# Altium integrated library Res.IntLib: 445 symbols (part 1 of 2)
Pins are listed as number, name and electrical type; pins without a type are passive.

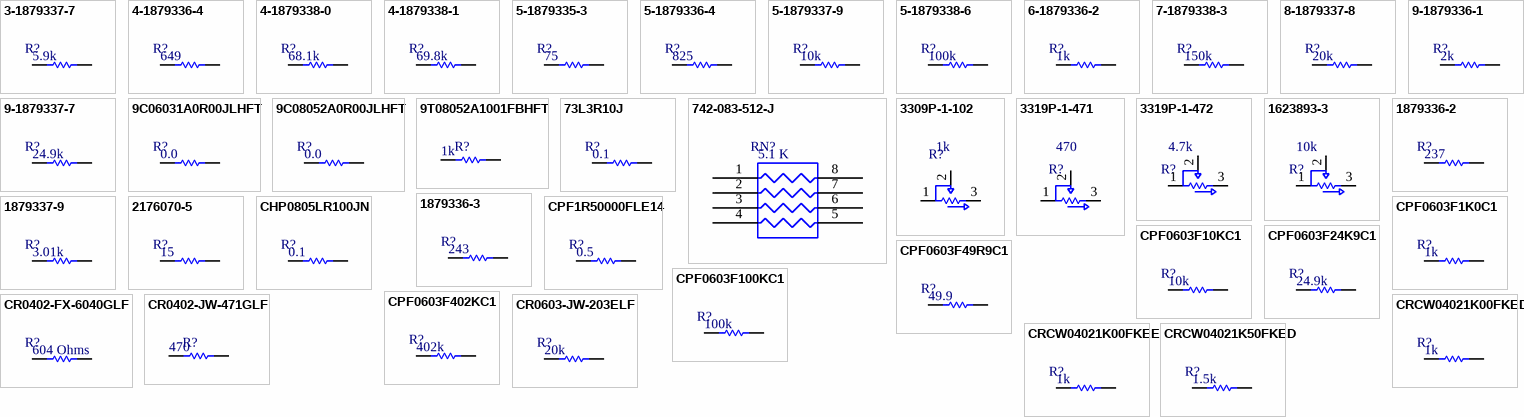
[diagram p0: symbols 3-1879337-7 to CRCW04021K50FKED]

## 3-1879337-7
designator R?  value 5.9k  (hidden comment: *)
RES SMD 5.9K OHM 1% 1/16W 0603; MPN: 3-1879337-7; MFT: TE Connectivity AMP Connectors; RATING: 0.063W; TYPE: SMD; LOAD: *
footprint R0603
pins: 1, 2

## 4-1879336-4
designator R?  value 649  (hidden comment: *)
RES SMD 649 OHM 1% 1/16W 0603; MPN: 4-1879336-4; MFT: TE Connectivity AMP Connectors; RATING: 0.063W; TYPE: SMD; LOAD: *
footprint R0603
pins: 1, 2

## 4-1879338-0
designator R?  value 68.1k  (hidden comment: *)
RES SMD 68.1K OHM 1% 1/16W 0603; MPN: 4-1879338-0; MFT: TE Connectivity AMP Connectors; RATING: 0.063W; TYPE: SMD; LOAD: *
footprint R0603
pins: 1, 2

## 4-1879338-1
designator R?  value 69.8k  (hidden comment: *)
RES SMD 69.8K OHM 1% 1/16W 0603; MPN: 4-1879338-1; MFT: TE Connectivity AMP Connectors; RATING: 0.063W; TYPE: SMD; LOAD: *
footprint R0603
pins: 1, 2

## 5-1879335-3
designator R?  value 75  (hidden comment: *)
RES SMD 75 OHM 1% 1/16W 0603; MPN: 5-1879335-3; MFT: TE Connectivity AMP Connectors; RATING: 0.063W; TYPE: SMD; LOAD: *
footprint R0603
pins: 1, 2

## 5-1879336-4
designator R?  value 825  (hidden comment: *)
RES SMD 825 OHM 1% 1/16W 0603; MPN: 5-1879336-4; MFT: TE Connectivity AMP Connectors; RATING: 0.063W; TYPE: SMD; LOAD: *
footprint R0603
pins: 1, 2

## 5-1879337-9
designator R?  value 10k  (hidden comment: *)
RES SMD 10K OHM 1% 1/16W 0603; MPN: 5-1879337-9; MFT: TE Connectivity AMP Connectors; RATING: 0.063W; TYPE: SMD; LOAD: *
footprint R0603
pins: 1, 2

## 5-1879338-6
designator R?  value 100k  (hidden comment: *)
RES SMD 100K OHM 1% 1/16W 0603; MPN: 5-1879338-6; MFT: TE Connectivity AMP Connectors; RATING: 0.063W; TYPE: SMD; LOAD: *
footprint R0603
pins: 1, 2

## 6-1879336-2
designator R?  value 1k  (hidden comment: *)
RES SMD 1K OHM 1% 1/16W 0603; MPN: 6-1879336-2; MFT: TE Connectivity AMP Connectors; RATING: 0.063W; TYPE: SMD; LOAD: *
footprint R0603
pins: 1, 2

## 7-1879338-3
designator R?  value 150k  (hidden comment: *)
RES SMD 150K OHM 1% 1/16W 0603; MPN: 7-1879338-3; MFT: TE Connectivity AMP Connectors; RATING: 0.063W; TYPE: SMD; LOAD: *
footprint R0603
pins: 1, 2

## 8-1879337-8
designator R?  value 20k  (hidden comment: *)
RES SMD 20K OHM 1% 1/16W 0603; MPN: 8-1879337-8; MFT: TE Connectivity AMP Connectors; RATING: 0.063W; TYPE: SMD; LOAD: *
footprint R0603
pins: 1, 2

## 9-1879336-1
designator R?  value 2k  (hidden comment: *)
RES SMD 2K OHM 1% 1/16W 0603; MPN: 9-1879336-1; MFT: TE Connectivity AMP Connectors; RATING: 0.063W; TYPE: SMD; LOAD: *
footprint R0603
pins: 1, 2

## 9-1879337-7
designator R?  value 24.9k  (hidden comment: *)
RES SMD 24.9K OHM 1% 1/16W 0603; MPN: 9-1879337-7; MFT: TE Connectivity AMP Connectors; RATING: 0.063W; TYPE: SMD; LOAD: *
footprint R0603
pins: 1, 2

## 9C06031A0R00JLHFT
designator R?  value 0.0  (hidden comment: *)
RES SMD 0.0OHM JUMPER 1/10W 0603; MPN: 9C06031A0R00JLHFT; MFT: Yageo; RATING: Jumper; TYPE: Surface Mount
footprint R0603
pins: 1, 2

## 9C08052A0R00JLHFT
designator R?  value 0.0  (hidden comment: *)
RES SMD 0.0 OHM JUMPER 1/8W 0805; MPN: 9C08052A0R00JLHFT; MFT: Yageo; RATING: Jumper; TYPE: Surface Mount
footprint R0805
pins: 1, 2

## 9T08052A1001FBHFT
designator R?  value 1k  (hidden comment: 9T08052A1001FBHFT)
RES 1.00K OHM 1/8W 1% SMD 0805; MFT: Yageo; RATING: 0.125W, 1/8W; MPN: 9T08052A1001FBHFT
footprint R0805
pins: 1, 2

## 73L3R10J
designator R?  value 0.1  (hidden comment: *)
RES SMD 0.1 OHM 5% 1/8W 0805; MPN: 73L3R10J; MFT: CTS Resistor Products; RATING: 0.125W; TYPE: SMD; LOAD: *
footprint R0805
pins: 1, 2

## 742-083-512-J
designator RN?  value 5.1 K  (hidden comment: *)
RESNET, MF, 5.1 KOHM NIL 5%, ISOLATED; MPN: 742-083-512-J; MFT: CTS Resistor Products; TYPE: Surface Mount; RATING: 5%
footprint 742-083-512-J
pins: 1 R1, 2 R2, 3 R3, 4 R4, 5 R4, 6 R3, 7 R2, 8 R1

## 3309P-1-102
designator R?  value 1k  (hidden comment: *)
TRIMMER 1K OHM 0.5W PC PIN; MPN: 3309P-1-102; MFT: Bourns Inc.; RATING: 0.5W, 1/2W 25%; TYPE: Through Hole
footprint 3309P-1-102
pins: 1 CCW, 2 WIPER, 3 CW

## 3319P-1-471
designator R?  value 470  (hidden comment: *)
TRIMMER 470 OHM 0.2W PC PIN; MPN: 3319P-1-471; MFT: Bourns Inc.; TYPE: Through Hole; RATING: 0.2W
footprint 3319P-1-471
pins: 1 CCW, 2 WIPER, 3 CW

## 3319P-1-472
designator R?  value 4.7k  (hidden comment: *)
TRIMMER 4.7K OHM 0.2W PC PIN; MPN: 3319P-1-472; MFT: Bourns Inc.; RATING: 0.2W,; TYPE: Through Hole
footprint 3319P-1-472
pins: 1 CCW, 2 WIPER, 3 CW

## 1623893-3
designator R?  value 10k  (hidden comment: *)
TRIMMER 10K OHM 0.2W TH; MPN: 1623893-3; MFT: TE Connectivity AMP Connectors; RATING: 0.2W; TYPE: Through Hole
footprint 1623893-3
pins: 1 CCW, 2 WIPER, 3 CW

## 1879336-2
designator R?  value 237  (hidden comment: *)
RES SMD 237 OHM 1% 1/16W 0603; MPN: 1879336-2; MFT: TE Connectivity AMP Connectors; TYPE: SMD; RATING: 1% 1/16W; LOAD: *
footprint R0603
pins: 1, 2

## 1879336-3
designator R?  value 243  (hidden comment: *)
RES SMD 243 OHM 1% 1/16W 0603; MPN: 1879336-3; MFT: TE Connectivity AMP Connectors; TYPE: SMD; RATING: 1% 1/16W; LOAD: *
footprint R0603
pins: 1, 2

## 1879337-9
designator R?  value 3.01k  (hidden comment: *)
Thin Film Resistors - SMD CPF 0603 3K01 1% 50PPM 1K RL; MPN: 1879337-9; MFT: TE Connectivity; TYPE: SMD; RATING: 1% 50PPM; LOAD: *
footprint R0603
pins: 1, 2

## 2176070-5
designator R?  value 15  (hidden comment: *)
Thick Film Resistors - SMD 3521 15R 1% 2W; MPN: 352115RFT; MFT: TE Connectivity / Holsworthy; RATING: 1% 2W; TYPE: Surface Mount
footprint R2512
pins: 1, 2

## CHP0805LR100JN
designator R?  value 0.1  (hidden comment: *)
Thick Film Resistors - SMD; MPN: CHP0805LR100JN; MFT: Vishay / Thin Film; RATING: 200 mW; TYPE: SMD/SMT
footprint R0805
pins: 1, 2

## CPF1R50000FLE14
designator R?  value 0.5  (hidden comment: *)
Metal Film Resistors - Through Hole 1watt .5ohms 1%; MPN: CPF1R50000FLE14; MFT: Vishay / Dale; RATING: 1 W; TYPE: TH
footprint CPF1R50000FLE14
pins: 1, 2

## CPF0603F1K0C1
designator R?  value 1k  (hidden comment: *)
RES SMD 1K OHM 1% 1/16W 0603; MPN: CPF0603F1K0C1; MFT: TE Connectivity AMP Connectors; RATING: 0.063W, 1/16W; TYPE: Surface Mount
footprint R0603
pins: 1, 2

## CPF0603F10KC1
designator R?  value 10k  (hidden comment: *)
RES SMD 10K OHM 1% 1/16W 0603; MPN: CPF0603F10KC1; MFT: TE Connectivity AMP Connectors; RATING: 0.063W, 1/16W; TYPE: Surface Mount
footprint R0603
pins: 1, 2

## CPF0603F24K9C1
designator R?  value 24.9k  (hidden comment: *)
RES SMD 24.9K OHM 1% 1/16W 0603; MPN: CPF0603F24K9C1; MFT: TE Connectivity AMP Connectors; RATING: 0.063W, 1/16W; TYPE: Surface Mount
footprint R0603
pins: 1, 2

## CPF0603F49R9C1
designator R?  value 49.9  (hidden comment: *)
RES SMD 49.9 OHM 1% 1/16W 0603; MPN: CPF0603F49R9C1; MFT: TE Connectivity AMP Connectors; RATING: 0.063W, 1/16W; TYPE: Surface Mount
footprint R0603
pins: 1, 2

## CPF0603F100KC1
designator R?  value 100k  (hidden comment: *)
RES SMD 100K OHM 1% 1/16W 0603; MPN: CPF0603F100KC1; MFT: TE Connectivity AMP Connectors; RATING: 0.063W, 1/16W; TYPE: Surface Mount
footprint R0603
pins: 1, 2

## CPF0603F402KC1
designator R?  value 402k  (hidden comment: *)
RES SMD 402K OHM 1% 1/16W 0603; MPN: CPF0603F402KC1; MFT: TE Connectivity AMP Connectors; RATING: 0.063W, 1/16W; TYPE: Surface Mount
footprint R0603
pins: 1, 2

## CR0402-FX-6040GLF
designator R?  value 604 Ohms  (hidden comment: *)
Thick Film Resistors - SMD 604OHM 1/16WATT 1%; MPN: CR0402-FX-6040GLF; MFT: Bourns; RATING: 62.5 mW; TYPE: Surface Mount
footprint R0402
pins: 1, 2

## CR0402-JW-471GLF
designator R?  value 470  (hidden comment: *)
Thick Film Resistors - SMD 470 OHM 5%; MPN: CR0402-JW-471GLF; MFT: Bourns; RATING: 62.5 mW; TYPE: Surface Mount
footprint R0402
pins: 1, 2

## CR0603-JW-203ELF
designator R?  value 20k  (hidden comment: *)
RES SMD 20K OHM 5% 1/10W 0603; MPN: CR0603-JW-203ELF; MFT: Bourns Inc.; RATING: 0.1W, 1/10W; TYPE: Surface Mount
footprint R0603
pins: 1, 2

## CRCW04021K00FKED
designator R?  value 1k  (hidden comment: *)
RES SMD 1K OHM 1% 1/16W 0402; MPN: CRCW04021K00FKED; RATING: 0.063W; MFT: Vishay Dale; TYPE: Surface Mount
footprint R0402
pins: 1, 2

## CRCW04021K00FKEE
designator R?  value 1k  (hidden comment: *)
RES SMD 1K OHM 1% 1/16W 0402; MPN: CRCW04021K00FKEE; MFT: Vishay Dale; RATING: 0.063W, 1/16W; TYPE: Surface Mount
footprint R0402
pins: 1, 2

## CRCW04021K50FKED
designator R?  value 1.5k  (hidden comment: *)
RES SMD 1.5K OHM 1% 1/16W 0402; MPN: CRCW04021K50FKED; MFT: Vishay Dale; TYPE: SMD; RATING: 1/16W; LOAD: *
footprint R0402
pins: 1, 2

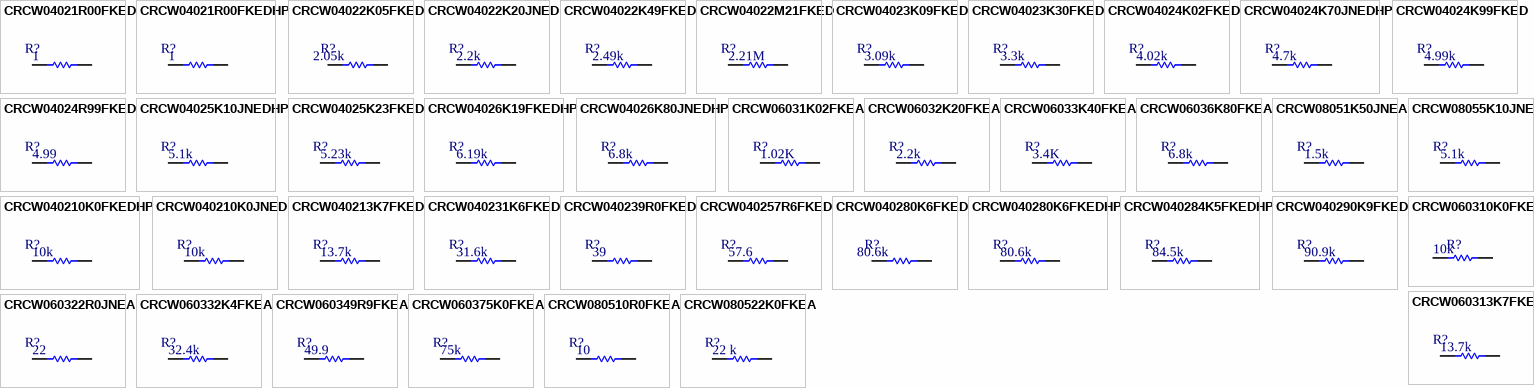
[diagram p1: symbols CRCW04021R00FKED to CRCW080522K0FKEA]

## CRCW04021R00FKED
designator R?  value 1  (hidden comment: *)
RES SMD 1 OHM 1% 1/16W 0402; MPN: CRCW04021R00FKED; MFT: Vishay Dale; TYPE: SMD; RATING: 1/16W; LOAD: *
footprint R0402
pins: 1, 2

## CRCW04021R00FKEDHP
designator R?  value 1  (hidden comment: *)
RES SMD 1 OHM 1% 1/5W 0402; MPN: CRCW04021R00FKEDHP; MFT: Vishay Dale; RATING: 0.2W, 1/5W; TYPE: Surface Mount
footprint R0402
pins: 1, 2

## CRCW04022K05FKED
designator R?  value 2.05k  (hidden comment: *)
RES SMD 2.05K OHM 1% 1/16W 0402; MPN: CRCW04022K05FKED; MFT: Vishay Dale; TYPE: SMD; RATING: 1/16W; LOAD: *
footprint R0402
pins: 1, 2

## CRCW04022K20JNED
designator R?  value 2.2k  (hidden comment: *)
RES SMD 2.2K OHM 5% 1/16W 0402; MPN: CRCW04022K20JNED; MFT: Vishay Dale; RATING: 0.063W, 1/16W; TYPE: Surface Mount
footprint R0402
pins: 1, 2

## CRCW04022K49FKED
designator R?  value 2.49k  (hidden comment: *)
RES SMD 2.49K OHM 1% 1/16W 0402; MPN: CRCW04022K49FKED; MFT: Vishay Dale; RATING: 63 mW; TYPE: Surface Mount
footprint R0402
pins: 1, 2

## CRCW04022M21FKED
designator R?  value 2.21M  (hidden comment: *)
RES SMD 2.21M OHM 1% 1/16W 0402; MPN: CRCW04022M21FKED; MFT: Vishay Dale; RATING: 0.063W, 1/16W; TYPE: Surface Mount
footprint R0402
pins: 1, 2

## CRCW04023K09FKED
designator R?  value 3.09k  (hidden comment: *)
RES SMD 3.09K OHM 1% 1/16W 0402; MPN: CRCW04023K09FKED; MFT: Vishay; LOAD: *; RATING: 1/16W; TYPE: SMD
footprint R0402
pins: 1, 2

## CRCW04023K30FKED
designator R?  value 3.3k  (hidden comment: *)
RES SMD 3.3K OHM 1% 1/16W 0402; MPN: CRCW04023K30FKED; MFT: Vishay Dale; TYPE: SMD; RATING: 1/16W; LOAD: *
footprint R0402
pins: 1, 2

## CRCW04024K02FKED
designator R?  value 4.02k  (hidden comment: *)
RES SMD 4.02K OHM 1% 1/16W 0402; MPN: CRCW04024K02FKED; MFT: Vishay Dale; RATING: 1% 1/16W; TYPE: Surface Mount
footprint R0402
pins: 1, 2

## CRCW04024K70JNEDHP
designator R?  value 4.7k  (hidden comment: *)
RES SMD 4.7K OHM 5% 1/8W 0402; MPN: CRCW04024K70JNEDHP; MFT: Vishay Dale; RATING: 5% 1/8W; TYPE: SMD; LOAD: *
footprint R0402
pins: 1, 2

## CRCW04024K99FKED
designator R?  value 4.99k  (hidden comment: *)
RES SMD 4.99K OHM 1% 1/16W 0402; MPN: CRCW04024K99FKED; MFT: Vishay Dale; RATING: 0.063W, 1/16W; TYPE: Surface Mount
footprint R0402
pins: 1, 2

## CRCW04024R99FKED
designator R?  value 4.99  (hidden comment: *)
RES SMD 4.99 OHM 1% 1/16W 0402; MPN: CRCW04024R99FKED; MFT: Vishay Dale; TYPE: Surface Mount; RATING: 1% 1/16W
footprint R0402
pins: 1, 2

## CRCW04025K10JNEDHP
designator R?  value 5.1k  (hidden comment: *)
RES SMD 5.1K OHM 5% 1/8W 0402; MPN: CRCW04025K10JNEDHP; MFT: Vishay Dale; RATING: 5% 1/8W; TYPE: SMD; LOAD: *
footprint R0402
pins: 1, 2

## CRCW04025K23FKED
designator R?  value 5.23k  (hidden comment: *)
RES SMD 5.23K OHM 1% 1/16W 0402; MPN: CRCW04025K23FKED; RATING: 0.063W; MFT: Vishay Dale; TYPE: Surface Mount
footprint R0402
pins: 1, 2

## CRCW04026K19FKEDHP
designator R?  value 6.19k  (hidden comment: *)
RES SMD 6.19K OHM 1% 1/5W 0402; MPN: CRCW04026K19FKEDHP; MFT: Vishay Dale; RATING: 0.2W, 1/5W; TYPE: Surface Mount
footprint R0402
pins: 1, 2

## CRCW04026K80JNEDHP
designator R?  value 6.8k  (hidden comment: *)
RES SMD 6.8K OHM 5% 1/8W 0402; MPN: CRCW04026K80JNEDHP; MFT: Vishay Dale; RATING: 5% 1/8W; TYPE: SMD; LOAD: *
footprint R0402
pins: 1, 2

## CRCW06031K02FKEA
designator R?  value 1.02K  (hidden comment: *)
Thick Film Resistors - SMD 1/10watt 1.02Kohms1%; MPN: CRCW06031K02FKEA; MFT: Vishay / Dale; RATING: 1%; TYPE: Surface Mount
footprint R0603
pins: 1, 2

## CRCW06032K20FKEA
designator R?  value 2.2k  (hidden comment: *)
RES SMD 2.2K OHM 1% 1/10W 0603; MPN: CRCW06032K20FKEA; MFT: Vishay Dale; RATING: 0.1W, 1/10W; TYPE: Surface Mount
footprint R0603
pins: 1, 2

## CRCW06033K40FKEA
designator R?  value 3.4K  (hidden comment: *)
Thick Film Resistors - SMD 1/10watt 3.4Kohms 1%; MPN: CRCW06033K40FKEA; MFT: Vishay / Dale; RATING: 1%; TYPE: Surface Mount
footprint R0603
pins: 1, 2

## CRCW06036K80FKEA
designator R?  value 6.8k  (hidden comment: *)
RES SMD 6.8K OHM 1% 1/10W 0603; MPN: CRCW06036K80FKEA; MFT: Vishay Dale; TYPE: Surface Mount; RATING: 1% 1/10W
footprint R0603
pins: 1, 2

## CRCW08051K50JNEA
designator R?  value 1.5k  (hidden comment: *)
RES SMD 1.5K OHM 5% 1/8W 0805; MPN: CRCW08051K50JNEA; MFT: Vishay Dale; RATING: 5% 1/8W; TYPE: SMD; LOAD: *
footprint R0805
pins: 1, 2

## CRCW08055K10JNEA
designator R?  value 5.1k  (hidden comment: *)
RES SMD 5.1K OHM 5% 1/8W 0805; MPN: CRCW08055K10JNEA; MFT: Vishay Dale; RATING: 5% 1/8W; TYPE: SMD; LOAD: *
footprint R0805
pins: 1, 2

## CRCW040210K0FKEDHP
designator R?  value 10k  (hidden comment: *)
RES SMD 10K OHM 1% 1/5W 0402; MPN: CRCW040210K0FKEDHP; MFT: Vishay Dale; RATING: 0.2W, 1/5W; TYPE: Surface Mount
footprint R0402
pins: 1, 2

## CRCW040210K0JNED
designator R?  value 10k  (hidden comment: *)
RES SMD 10K OHM 5% 1/16W 0402; MPN: CRCW040210K0JNED; MFT: Vishay Dale; RATING: 0.063W, 1/16W; TYPE: Surface Mount
footprint R0402
pins: 1, 2

## CRCW040213K7FKED
designator R?  value 13.7k  (hidden comment: *)
RES SMD 13.7K OHM 1% 1/16W 0402; MPN: CRCW040213K7FKED; MFT: Vishay Dale; TYPE: SMD; RATING: 1% 1/16W; LOAD: *
footprint R0402
pins: 1, 2

## CRCW040231K6FKED
designator R?  value 31.6k  (hidden comment: *)
RES SMD 31.6K OHM 1% 1/16W 0402; MPN: CRCW040231K6FKED; MFT: Vishay Dale; RATING: 0.063W, 1/16W; TYPE: Surface Mount
footprint R0402
pins: 1, 2

## CRCW040239R0FKED
designator R?  value 39  (hidden comment: *)
RES SMD 39 OHM 1% 1/16W 0402; MPN: CRCW040239R0FKED; MFT: Vishay Dale; TYPE: SMD; RATING: 1/16W; LOAD: *
footprint R0402
pins: 1, 2

## CRCW040257R6FKED
designator R?  value 57.6  (hidden comment: *)
RES SMD 57.6 OHM 1% 1/16W 0402; MPN: CRCW040257R6FKED; MFT: Vishay Dale; TYPE: SMD; RATING: 1/16W; LOAD: *
footprint R0402
pins: 1, 2

## CRCW040280K6FKED
designator R?  value 80.6k  (hidden comment: *)
RES SMD 80.6K OHM 1% 1/16W 0402; MPN: CRCW040280K6FKED; MFT: Vishay Dale; TYPE: SMD; RATING: 1/16W; LOAD: *
footprint R0402
pins: 1, 2

## CRCW040280K6FKEDHP
designator R?  value 80.6k  (hidden comment: *)
RES SMD 80.6K OHM 1% 1/8W 0402; MPN: CRCW040280K6FKEDHP; MFT: Vishay Dale; RATING: 1% 1/8W; TYPE: SMD; LOAD: *
footprint R0402
pins: 1, 2

## CRCW040284K5FKEDHP
designator R?  value 84.5k  (hidden comment: *)
RES SMD 84.5K OHM 1% 1/5W 0402; MPN: CRCW040284K5FKEDHP; MFT: Vishay Dale; RATING: 0.2W, 1/5W; TYPE: Surface Mount
footprint R0402
pins: 1, 2

## CRCW040290K9FKED
designator R?  value 90.9k  (hidden comment: *)
RES SMD 90.9K OHM 1% 1/16W 0402; MPN: CRCW040290K9FKED; MFT: Vishay Dale; RATING: ±1%; TYPE: Surface Mount
footprint R0402
pins: 1, 2

## CRCW060310K0FKEA
designator R?  value 10k
RES 10.0K OHM 1/10W 1% 0603 SMD; MPN: CRCW060310K0FKEA; MFT: Vishay Dale; RATING: 0.1W, 1/10W; TYPE: Surface Mount
footprint R0603
pins: 1, 2

## CRCW060313K7FKEA
designator R?  value 13.7k  (hidden comment: *)
RES SMD 13.7K OHM 1% 1/10W 0603; MPN: CRCW060313K7FKEA; MFT: Vishay Dale; RATING: 100 mW; TYPE: Surface Mount
footprint R0603
pins: 1, 2

## CRCW060322R0JNEA
designator R?  value 22  (hidden comment: *)
RES SMD 22 OHM 5% 1/10W 0603; MPN: CRCW060322R0JNEA; MFT: Vishay Dale; RATING: ±5%; TYPE: Surface Mount
footprint R0603
pins: 1, 2

## CRCW060332K4FKEA
designator R?  value 32.4k  (hidden comment: *)
RES SMD 32.4K OHM 1% 1/10W 0603; MPN: CRCW060332K4FKEA; MFT: Vishay Dale; RATING: 0.1W, 1/10W; TYPE: Surface Mount
footprint R0603
pins: 1, 2

## CRCW060349R9FKEA
designator R?  value 49.9  (hidden comment: *)
RES SMD 49.9 OHM 1% 1/10W 0603; MPN: CRCW060349R9FKEA; MFT: Vishay Dale; RATING: ±1%; TYPE: Surface Mount
footprint R0603
pins: 1, 2

## CRCW060375K0FKEA
designator R?  value 75k  (hidden comment: *)
RES SMD 75K OHM 1% 1/10W 0603; MPN: CRCW060375K0FKEA; MFT: Vishay Dale; RATING: 100mW; TYPE: Surface Mount
footprint R0603
pins: 1, 2

## CRCW080510R0FKEA
designator R?  value 10  (hidden comment: *)
RES SMD 10 OHM 1% 1/8W 0805; MPN: CRCW080510R0FKEA; MFT: Vishay Dale; RATING: 1% 1/8W; TYPE: Surface Mount
footprint R0805
pins: 1, 2

## CRCW080522K0FKEA
designator R?  value 22 k  (hidden comment: *)
Thick Film Resistors - SMD 1/8watt 22Kohms 1% 100ppm; MPN: CRCW080522K0FKEA; MFT: Vishay / Dale; RATING: 125 mW; TYPE: SMD/SMT
footprint R0805
pins: 1, 2

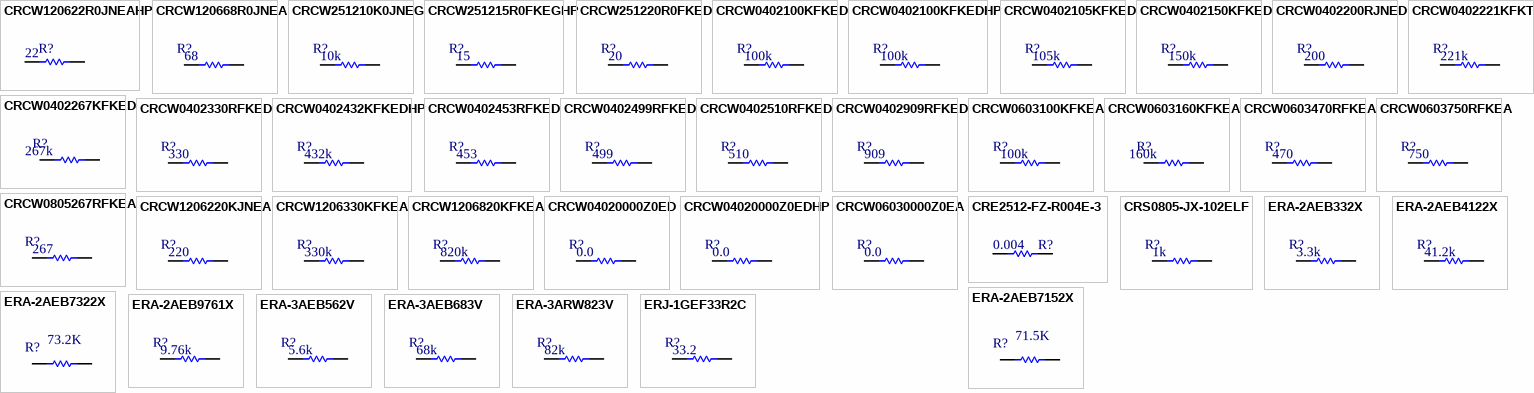
[diagram p2: symbols CRCW120622R0JNEAHP to ERJ-1GEF33R2C]

## CRCW120622R0JNEAHP
designator R?  value 22  (hidden comment: CRCW120622R0JNEAHP)
Thick Film Resistors - SMD 1/2watt 22ohms 5% 200ppm High Power; MFT: Vishay / Dale; RATING: 500 mW (1/2 W); MPN: CRCW120622R0JNEAHP; TYPE: Surface Mount
footprint R1206
pins: 1, 2

## CRCW120668R0JNEA
designator R?  value 68  (hidden comment: *)
RES SMD 68 OHM 5% 1/4W 1206; MPN: CRCW120668R0JNEA; MFT: Vishay Dale; RATING: 5% 1/4W; TYPE: SMD; LOAD: *
footprint R1206
pins: 1, 2

## CRCW251210K0JNEG
designator R?  value 10k  (hidden comment: *)
RES SMD 10K OHM 5% 1W 2512; MPN: CRCW251210K0JNEG; MFT: Vishay Dale; RATING: 1W; TYPE: Surface Mount
footprint R2512
pins: 1, 2

## CRCW251215R0FKEGHP
designator R?  value 15  (hidden comment: *)
RES SMD 15 OHM 1% 1.5W 2512; MPN: CRCW251215R0FKEGHP; MFT: Vishay Dale; TYPE: SMD; RATING: 1.5W; LOAD: *
footprint R2512
pins: 1, 2

## CRCW251220R0FKED
designator R?  value 20  (hidden comment: *)
RES SMD 2512 20 OHMS 1% 1W; MPN: CRCW251220R0FKED; RATING: 1% 1W; MFT: *; TYPE: SMD; LOAD: *
footprint R2512
pins: 1, 2

## CRCW0402100KFKED
designator R?  value 100k  (hidden comment: *)
RES SMD 100K OHM 1% 1/16W 0402; MPN: CRCW0402100KFKED; RATING: 0.063W; MFT: Vishay Dale; TYPE: Surface Mount
footprint R0402
pins: 1, 2

## CRCW0402100KFKEDHP
designator R?  value 100k  (hidden comment: *)
RES SMD 100K OHM 1% 1/5W 0402; MPN: CRCW0402100KFKEDHP; MFT: Vishay Dale; RATING: 0.2W, 1/5W; TYPE: Surface Mount
footprint R0402
pins: 1, 2

## CRCW0402105KFKED
designator R?  value 105k  (hidden comment: *)
RES SMD 105K OHM 1% 1/16W 0402; MPN: CRCW0402105KFKED; MFT: Vishay Dale; RATING: 0.063W, 1/16W; TYPE: Surface Mount
footprint R0402
pins: 1, 2

## CRCW0402150KFKED
designator R?  value 150k  (hidden comment: *)
RES SMD 150K OHM 1% 1/16W 0402; MPN: CRCW0402150KFKED; MFT: Vishay Dale; RATING: 63mW; TYPE: Surface Mount
footprint R0402
pins: 1, 2

## CRCW0402200RJNED
designator R?  value 200  (hidden comment: *)
RES SMD 200 OHM 5% 1/16W 0402; MPN: CRCW0402200RJNED; MFT: Vishay Dale; TYPE: SMD; RATING: 1/16W; LOAD: *
footprint R0402
pins: 1, 2

## CRCW0402221KFKTD
designator R?  value 221k  (hidden comment: *)
Thick Film Resistors - SMD 1/16watt 221Kohms 1%; MPN: CRCW0402221KFKTD; MFT: Vishay / Dale; RATING: 63mW; TYPE: Surface Mount
footprint R0402
pins: 1, 2

## CRCW0402267KFKED
designator R?  value 267k  (hidden comment: *)
RES SMD 267K OHM 1% 1/16W 0402; MPN: CRCW0402267KFKED; MFT: Vishay Dale; TYPE: SMD; RATING: 1/16W; LOAD: *
footprint R0402
pins: 1, 2

## CRCW0402330RFKED
designator R?  value 330  (hidden comment: *)
RES SMD 330 OHM 1% 1/16W 0402; MPN: CRCW0402330RFKED; MFT: Vishay Dale; TYPE: SMD; RATING: 1/16W; LOAD: *
footprint R0402
pins: 1, 2

## CRCW0402432KFKEDHP
designator R?  value 432k  (hidden comment: *)
RES SMD 432K OHM 1% 1/5W 0402; MPN: CRCW0402432KFKEDHP; MFT: Vishay Dale; RATING: 0.2W, 1/5W; TYPE: Surface Mount
footprint R0402
pins: 1, 2

## CRCW0402453RFKED
designator R?  value 453  (hidden comment: *)
RES SMD 453 OHM 1% 1/16W 0402; MPN: CRCW0402453RFKED; MFT: Vishay Dale; RATING: ±1%; TYPE: Surface Mount
footprint R0402
pins: 1, 2

## CRCW0402499RFKED
designator R?  value 499  (hidden comment: *)
RES SMD 499 OHM 1% 1/16W 0402; MPN: CRCW0402499RFKED; MFT: Vishay Dale; RATING: 0.063W, 1/16W; TYPE: Surface Mount
footprint R0402
pins: 1, 2

## CRCW0402510RFKED
designator R?  value 510  (hidden comment: *)
Thick Film Resistors - SMD 1/16watt 510ohms 1%; MPN: CRCW0402510RFKED; MFT: Vishay / Dale; RATING: 63mW; TYPE: Surface Mount
footprint R0402
pins: 1, 2

## CRCW0402909RFKED
designator R?  value 909  (hidden comment: *)
RES SMD 909 OHM 1% 1/16W 0402; MPN: CRCW0402909RFKED; MFT: Vishay Dale; RATING: 0.063W, 1/16W; TYPE: Surface Mount
footprint R0402
pins: 1, 2

## CRCW0603100KFKEA
designator R?  value 100k  (hidden comment: *)
RES SMD 100K OHM 1% 1/10W 0603; MPN: CRCW0603100KFKEA; MFT: Vishay Dale; RATING: 100mW; TYPE: Surface Mount
footprint R0603
pins: 1, 2

## CRCW0603160KFKEA
designator R?  value 160k  (hidden comment: *)
RES SMD 160K OHM 1% 1/10W 0603; MPN: CRCW0603160KFKEA; MFT: Vishay Dale; LOAD: *; TYPE: SMD; RATING: 1/10W
footprint R0603
pins: 1, 2

## CRCW0603470RFKEA
designator R?  value 470  (hidden comment: *)
RES SMD 470 OHM 1% 1/10W 0603; MPN: CRCW0603470RFKEA; MFT: Vishay Dale; RATING: 0.1W, 1/10W; TYPE: Surface Mount
footprint R0603
pins: 1, 2

## CRCW0603750RFKEA
designator R?  value 750  (hidden comment: *)
RES SMD 750 OHM 1% 1/10W 0603; MPN: CRCW0603750RFKEA; MFT: Vishay Dale; TYPE: SMD; RATING: 1/10W; LOAD: *
footprint R0603
pins: 1, 2

## CRCW0805267RFKEA
designator R?  value 267  (hidden comment: *)
RES SMD 267 OHM 1% 1/8W 0805; MPN: CRCW0805267RFKEA; MFT: Vishay Dale; RATING: ±1%; TYPE: Surface Mount
footprint R0805
pins: 1, 2

## CRCW1206220KJNEA
designator R?  value 220  (hidden comment: *)
VISHAY DALE - CRCW1206220KJNEA - THICK FILM RESISTOR, 220KOHM, 250mW, 5%; MFT: VISHAY DALE; MPN: CRCW1206220KJNEA; TYPE: SMD; RATING: 250mW, 5%; LOAD: *
footprint R1206
pins: 1, 2

## CRCW1206330KFKEA
designator R?  value 330k  (hidden comment: *)
RES SMD 330K OHM 1% 1/4W 1206; MPN: CRCW1206330KFKEA; MFT: Vishay Dale; TYPE: SMD; RATING: 1/4W; LOAD: *
footprint R1206
pins: 1, 2

## CRCW1206820KFKEA
designator R?  value 820k  (hidden comment: *)
RES SMD 820K OHM 1% 1/4W 1206; MPN: CRCW1206820KFKEA; MFT: Vishay Dale; TYPE: SMD; RATING: 1/4W; LOAD: *
footprint R1206
pins: 1, 2

## CRCW04020000Z0ED
designator R?  value 0.0  (hidden comment: *)
RES SMD 0.0OHM JUMPER 1/16W 0402; MPN: CRCW04020000Z0ED; MFT: Vishay Dale; RATING: 63mW; TYPE: Surface Mount
footprint R0402
pins: 1, 2

## CRCW04020000Z0EDHP
designator R?  value 0.0  (hidden comment: *)
RES SMD 0.0 OHM JUMPER 1/5W 0402; MPN: CRCW04020000Z0EDHP; MFT: Vishay Dale; RATING: 0.2W, 1/5W; TYPE: Surface Mount
footprint R0402
pins: 1, 2

## CRCW06030000Z0EA
designator R?  value 0.0  (hidden comment: *)
RES SMD 0.0OHM JUMPER 1/10W 0603; MPN: CRCW06030000Z0EA; MFT: Vishay Dale; RATING: 0.1W, 1/10W; TYPE: Surface Mount
footprint R0603
pins: 1, 2

## CRE2512-FZ-R004E-3
designator R?  value 0.004  (hidden comment: CRE2512-FZ-R004E-3)
RES SMD 0.004 OHM 1% 3W 2512; MFT: Bourns Inc.; MPN: CRE2512-FZ-R004E-3; RATING: 3W; TYPE: Surface Mount
footprint R2512
pins: 1, 2

## CRS0805-JX-102ELF
designator R?  value 1k  (hidden comment: *)
Thick Film Resistors - SMD 1kohms .25W 5% TCR100 RES SMD; MPN: CRS0805-JX-102ELF; MFT: Bourns; RATING: 250 mW; TYPE: SMD/SMT
footprint R0805
pins: 1, 2

## ERA-2AEB332X
designator R?  value 3.3k  (hidden comment: *)
RES SMD 3.3K OHM 0.1% 1/16W 0402; MPN: ERA-2AEB332X; MFT: Panasonic Electronic Components; RATING: 0.063W, 1/16W; TYPE: Surface Mount
footprint R0402
pins: 1, 2

## ERA-2AEB4122X
designator R?  value 41.2k  (hidden comment: *)
RES SMD 41.2KOHM 0.1% 1/16W 0402; MPN: ERA-2AEB4122X; MFT: Panasonic Electronic Components; RATING: 0.1% 1/16W; TYPE: Surface Mount
footprint R0402
pins: 1, 2

## ERA-2AEB7152X
designator R?  value 71.5K  (hidden comment: *)
RES SMD 71.5KOHM 0.1% 1/16W 0402; MPN: ERA-2AEB7152X; MFT: Panasonic; LOAD: *; TYPE: SMD; RATING: 0.1% 1/16W
footprint R0402
pins: 1, 2

## ERA-2AEB7322X
designator R?  value 73.2K  (hidden comment: *)
RES SMD 73.2KOHM 0.1% 1/16W 0402; MPN: ERA-2AEB7322X; MFT: Panasonic; LOAD: *; TYPE: SMD; RATING: 0.1% 1/16W
footprint R0402
pins: 1, 2

## ERA-2AEB9761X
designator R?  value 9.76k  (hidden comment: *)
RES SMD 9.76KOHM 0.1% 1/16W 0402; MPN: ERA-2AEB9761X; MFT: Panasonic Electronic Components; TYPE: Surface Mount; RATING: 0.1% 1/16W
footprint R0402
pins: 1, 2

## ERA-3AEB562V
designator R?  value 5.6k  (hidden comment: *)
RES SMD 5.6K OHM 0.1% 1/10W 0603; MPN: ERA-3AEB562V; MFT: Panasonic Electronic Components; TYPE: SMD; RATING: 1/10W; LOAD: *
footprint R0603
pins: 1, 2

## ERA-3AEB683V
designator R?  value 68k  (hidden comment: *)
RES SMD 68K OHM 0.1% 1/10W 0603; MPN: ERA-3AEB683V; MFT: Panasonic Electronic Components; TYPE: SMD; RATING: 1/10W; LOAD: *
footprint R0603
pins: 1, 2

## ERA-3ARW823V
designator R?  value 82k  (hidden comment: *)
RES SMD 82K OHM 0.05% 1/10W 0603; MPN: ERA-3ARW823V; MFT: Panasonic Electronic Components; RATING: 0.1W, 1/10W; TYPE: Surface Mount
footprint R0603
pins: 1, 2

## ERJ-1GEF33R2C
designator R?  value 33.2  (hidden comment: *)
RES SMD 33.2 OHM 1% 1/20W 0201; MPN: ERJ-1GEF33R2C; MFT: Panasonic Electronic Components; RATING: ±1%; TYPE: Surface Mount
footprint R0201
pins: 1, 2

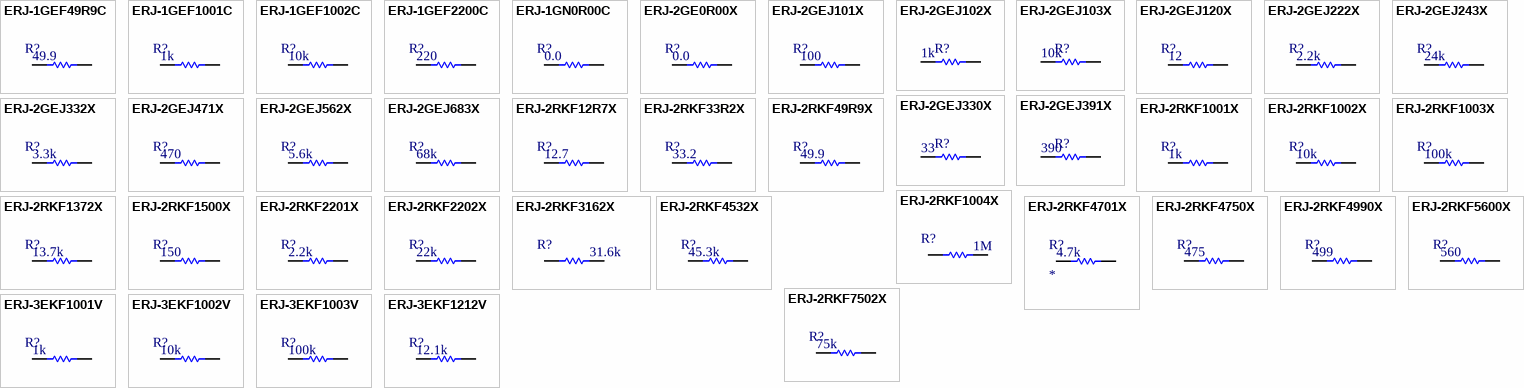
[diagram p3: symbols ERJ-1GEF49R9C to ERJ-3EKF1212V]

## ERJ-1GEF49R9C
designator R?  value 49.9  (hidden comment: *)
RES SMD 49.9 OHM 1% 1/20W 0201; MPN: ERJ-1GEF49R9C; MFT: Panasonic Electronic Components; RATING: ±1%; TYPE: Surface Mount
footprint R0201
pins: 1, 2

## ERJ-1GEF1001C
designator R?  value 1k  (hidden comment: *)
RES SMD 1K OHM 1% 1/20W 0201; MPN: ERJ-1GEF1001C; MFT: Panasonic Electronic Components; LOAD: *; TYPE: SMD; RATING: 1/20W
footprint R0201
pins: 1, 2

## ERJ-1GEF1002C
designator R?  value 10k  (hidden comment: *)
RES SMD 10K OHM 1% 1/20W 0201; MPN: ERJ-1GEF1002C; MFT: Panasonic Electronic Components; LOAD: *; TYPE: SMD; RATING: 1/20W
footprint R0201
pins: 1, 2

## ERJ-1GEF2200C
designator R?  value 220  (hidden comment: *)
RES SMD 220 OHM 1% 1/20W 0201; MPN: ERJ-1GEF2200C; MFT: Panasonic Electronic Components; LOAD: *; TYPE: SMD; RATING: 1/20W
footprint R0201
pins: 1, 2

## ERJ-1GN0R00C
designator R?  value 0.0  (hidden comment: *)
RES SMD 0 OHM JUMPER 1/20W 0201; MPN: ERJ-1GN0R00C; MFT: Panasonic Electronic Components; LOAD: *; TYPE: SMD; RATING: 1/20W
footprint R0201
pins: 1, 2

## ERJ-2GE0R00X
designator R?  value 0.0  (hidden comment: *)
RES SMD 0.0 OHM JUMPER 1/10W; MPN: ERJ-2GE0R00X; MFT: Panasonic Electronic Components; RATING: 100mW; TYPE: Surface Mount
footprint R0402
pins: 1, 2

## ERJ-2GEJ101X
designator R?  value 100  (hidden comment: *)
RES SMD 100 OHM 5% 1/10W 0402; MPN: ERJ-2GEJ101X; MFT: Panasonic Electronic Components; RATING: 100mW; TYPE: Surface Mount
footprint R0402
pins: 1, 2

## ERJ-2GEJ102X
designator R?  value 1k  (hidden comment: ERJ-2GEJ102X)
RES SMD 1K OHM 5% 1/10W 0402; MFT: Panasonic Electronic Components; RATING: 0.1W, 1/10W; MPN: ERJ-2GEJ102X; TYPE: Surface Mount
footprint R0402
pins: 1, 2

## ERJ-2GEJ103X
designator R?  value 10k  (hidden comment: ERJ-2GEJ103X)
RES SMD 10K OHM 5% 1/10W 0402; MFT: Panasonic Electronic Components; RATING: 0.1W, 1/10W; MPN: ERJ-2GEJ103X; TYPE: Surface Mount
footprint R0402
pins: 1, 2

## ERJ-2GEJ120X
designator R?  value 12  (hidden comment: *)
RES SMD 12 OHM 5% 1/10W 0402; MPN: ERJ-2GEJ120X; MFT: Panasonic Electronic Components; RATING: 0.1W, 1/10W; TYPE: Surface Mount
footprint R0402
pins: 1, 2

## ERJ-2GEJ222X
designator R?  value 2.2k  (hidden comment: *)
RES SMD 2.2K OHM 5% 1/10W 0402; MPN: ERJ-2GEJ222X; MFT: Panasonic Electronic Components; RATING: 0.1W; TYPE: Surface Mount
footprint R0402
pins: 1, 2

## ERJ-2GEJ243X
designator R?  value 24k  (hidden comment: *)
RES SMD 24K OHM 5% 1/10W 0402; MPN: ERJ-2GEJ243X; MFT: Panasonic Electronic Components; RATING: 0.1W, 1/10W; TYPE: Surface Mount
footprint R0402
pins: 1, 2

## ERJ-2GEJ330X
designator R?  value 33  (hidden comment: ERJ-2GEJ330X)
RES SMD 33 OHM 5% 1/10W 0402; MFT: Panasonic Electronic Components; RATING: 0.1W, 1/10W; MPN: ERJ-2GEJ330X; TYPE: Surface Mount
footprint R0402
pins: 1, 2

## ERJ-2GEJ332X
designator R?  value 3.3k  (hidden comment: *)
RES SMD 3.3K OHM 5% 1/10W 0402; MPN: ERJ-2GEJ332X; MFT: Panasonic Electronic Components; RATING: 0.1W; TYPE: Surface Mount
footprint R0402
pins: 1, 2

## ERJ-2GEJ391X
designator R?  value 390  (hidden comment: ERJ-2GEJ391X)
RES SMD 390 OHM 5% 1/10W 0402; MFT: Panasonic Electronic Components; RATING: 0.1W, 1/10W; MPN: ERJ-2GEJ391X
footprint R0402
pins: 1, 2

## ERJ-2GEJ471X
designator R?  value 470  (hidden comment: *)
RES SMD 470 OHM 5% 1/10W 0402; MPN: ERJ-2GEJ471X; MFT: Panasonic Electronic Components; TYPE: SMD; RATING: 5% 1/10W; LOAD: *
footprint R0402
pins: 1, 2

## ERJ-2GEJ562X
designator R?  value 5.6k  (hidden comment: *)
RES SMD 5.6K OHM 5% 1/10W 0402; MPN: ERJ-2GEJ562X; MFT: Panasonic Electronic Components; RATING: 0.1W, 1/10W; TYPE: Surface Mount
footprint R0402
pins: 1, 2

## ERJ-2GEJ683X
designator R?  value 68k  (hidden comment: *)
RES SMD 68K OHM 5% 1/10W 0402; MPN: ERJ-2GEJ683X; MFT: Panasonic Electronic Components; RATING: 0.1W, 1/10W; TYPE: Surface Mount
footprint R0402
pins: 1, 2

## ERJ-2RKF12R7X
designator R?  value 12.7  (hidden comment: *)
RES SMD 12.7 OHM 1% 1/10W 0402; MPN: ERJ-2RKF12R7X; MFT: Panasonic Electronic Components; RATING: 0.1W; TYPE: Surface Mount
footprint R0402
pins: 1, 2

## ERJ-2RKF33R2X
designator R?  value 33.2  (hidden comment: *)
RES SMD 33.2 OHM 1% 1/10W 0402; MPN: ERJ-2RKF33R2X; MFT: Panasonic Electronic Components; RATING: 0.1W; TYPE: Surface Mount
footprint R0402
pins: 1, 2

## ERJ-2RKF49R9X
designator R?  value 49.9  (hidden comment: *)
RES SMD 49.9 OHM 1% 1/10W 0402; MPN: ERJ-2RKF49R9X; MFT: Panasonic Electronic Components; RATING: 0.1W; TYPE: Surface Mount
footprint R0402
pins: 1, 2

## ERJ-2RKF1001X
designator R?  value 1k  (hidden comment: *)
RES SMD 1K OHM 1% 1/10W 0402; MPN: ERJ-2RKF1001X; MFT: Panasonic Electronic Components; RATING: 0.1W, 1/10W; TYPE: Surface Mount
footprint R0402
pins: 1, 2

## ERJ-2RKF1002X
designator R?  value 10k  (hidden comment: *)
RES SMD 10K OHM 1% 1/10W 0402; MPN: ERJ-2RKF1002X; MFT: Panasonic Electronic Components; RATING: 0.1W, 1/10W; TYPE: Surface Mount
footprint R0402
pins: 1, 2

## ERJ-2RKF1003X
designator R?  value 100k  (hidden comment: *)
RES SMD 100K OHM 1% 1/10W 0402; MPN: ERJ-2RKF1003X; MFT: Panasonic Electronic Components; RATING: 0.1W, 1/10W; TYPE: Surface Mount
footprint R0402
pins: 1, 2

## ERJ-2RKF1004X
designator R?  value 1M  (hidden comment: *)
RES SMD 1M OHM 1% 1/10W 0402; MPN: ERJ-2RKF1004X; MFT: Panasonic; RATING: 1/10W; LOAD: *; TYPE: SMD
footprint R0402
pins: 1, 2

## ERJ-2RKF1372X
designator R?  value 13.7k  (hidden comment: *)
RES SMD 13.7K OHM 1% 1/10W 0402; MPN: ERJ-2RKF1372X; MFT: Panasonic Electronic Components; RATING: 0.1W; TYPE: Surface Mount
footprint R0402
pins: 1, 2

## ERJ-2RKF1500X
designator R?  value 150  (hidden comment: *)
RES SMD 150 OHM 1% 1/10W 0402; MPN: ERJ-2RKF1500X; MFT: Panasonic Electronic Components; TYPE: SMD; LOAD: *; RATING: 1/10W
footprint R0402
pins: 1, 2

## ERJ-2RKF2201X
designator R?  value 2.2k  (hidden comment: *)
RES SMD 2.2K OHM 1% 1/10W 0402; MPN: ERJ-2RKF2201X; MFT: Panasonic Electronic Components; RATING: 0.1W, 1/10W; TYPE: Surface Mount
footprint R0402
pins: 1, 2

## ERJ-2RKF2202X
designator R?  value 22k  (hidden comment: *)
RES SMD 22K OHM 1% 1/10W 0402; MPN: ERJ-2RKF2202X; MFT: Panasonic; LOAD: *; TYPE: SMD; RATING: 1/10W
footprint R0402
pins: 1, 2

## ERJ-2RKF3162X
designator R?  value 31.6k  (hidden comment: *)
RES SMD 31.6K OHM 1% 1/10W 0402; MPN: ERJ-2RKF3162X; MFT: Panasonic; TYPE: SMD; RATING: 1/10W; LOAD: *
footprint R0402
pins: 1, 2

## ERJ-2RKF4532X
designator R?  value 45.3k  (hidden comment: *)
RES SMD 45.3K OHM 1% 1/10W 0402; MPN: ERJ-2RKF4532X; MFT: Panasonic Electronic Components; RATING: 0.1W; TYPE: SMD; LOAD: *
footprint R0402
pins: 1, 2

## ERJ-2RKF4701X
designator R?  value 4.7k
RES SMD 4.7K OHM 1% 1/10W 0402; MPN: ERJ-2RKF4701X; MFT: Panasonic Electronic Components; RATING: 0.1W, 1/10W; TYPE: Surface Mount
footprint R0402
pins: 1, 2

## ERJ-2RKF4750X
designator R?  value 475  (hidden comment: *)
RES SMD 475 OHM 1% 1/10W 0402; MPN: ERJ-2RKF4750X; MFT: Panasonic Electronic Components; RATING: 0.1W; TYPE: Surface Mount
footprint C0402
pins: 1, 2

## ERJ-2RKF4990X
designator R?  value 499  (hidden comment: *)
RES SMD 499 OHM 1% 1/10W 0402; MPN: ERJ-2RKF4990X; MFT: Panasonic Electronic Components; RATING: 0.1W; TYPE: SMD; LOAD: *
footprint R0402
pins: 1, 2

## ERJ-2RKF5600X
designator R?  value 560  (hidden comment: *)
RES SMD 560 OHM 1% 1/10W 0402; MPN: ERJ-2RKF5600X; MFT: Panasonic Electronic Components; RATING: 0.1W, 1/10W; TYPE: Surface Mount
footprint R0402
pins: 1, 2

## ERJ-2RKF7502X
designator R?  value 75k  (hidden comment: *)
RES SMD 75K OHM 1% 1/10W 0402; MPN: ERJ-2RKF7502X; MFT: Panasonic Electronic Components; RATING: 0.1W; TYPE: Surface Mount
footprint R0402
pins: 1, 2

## ERJ-3EKF1001V
designator R?  value 1k  (hidden comment: *)
RES SMD 1K OHM 1% 1/10W 0603; MPN: ERJ-3EKF1001V; MFT: Panasonic Electronic Components; RATING: 0.1W; TYPE: Surface Mount
footprint R0603
pins: 1, 2

## ERJ-3EKF1002V
designator R?  value 10k  (hidden comment: *)
RES SMD 10K OHM 1% 1/10W 0603; MPN: ERJ-3EKF1002V; MFT: Panasonic Electronic Components; RATING: 0.1W, 1/10W; TYPE: Surface Mount
footprint R0603
pins: 1, 2

## ERJ-3EKF1003V
designator R?  value 100k  (hidden comment: *)
RES SMD 100K OHM 1% 1/10W 0603; MPN: ERJ-3EKF1003V; MFT: Panasonic Electronic Components; RATING: 0.1W, 1/10W; TYPE: Surface Mount
footprint R0603
pins: 1, 2

## ERJ-3EKF1212V
designator R?  value 12.1k  (hidden comment: *)
RES SMD 12.1K OHM 1% 1/10W 0603; MPN: ERJ-3EKF1212V; MFT: Panasonic Electronic Components; RATING: 0.1W; TYPE: Surface Mount
footprint R0603
pins: 1, 2

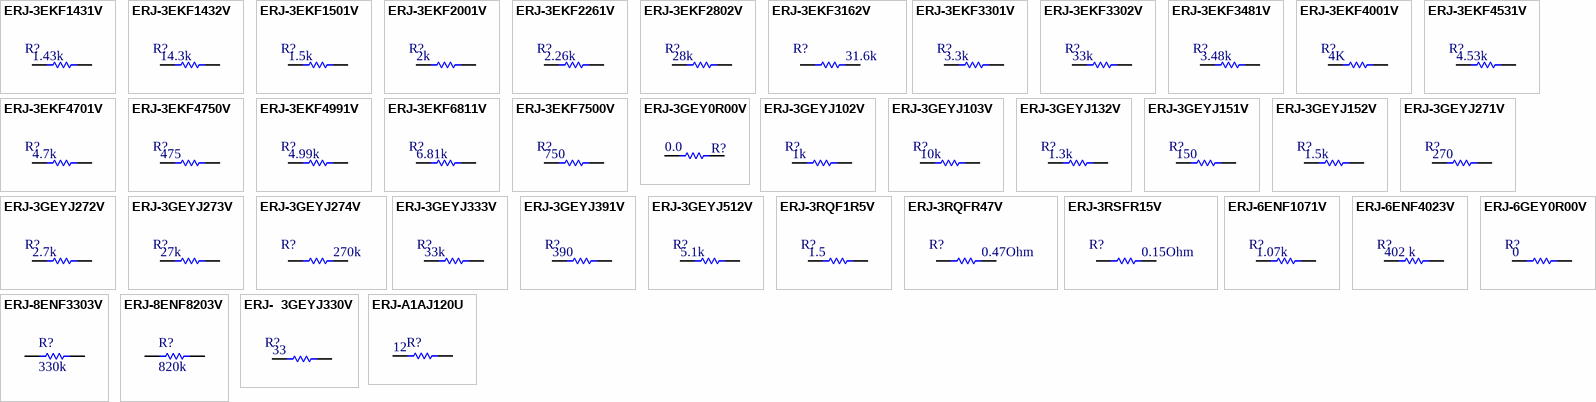
[diagram p4: symbols ERJ-3EKF1431V to ERJ-A1AJ120U]

## ERJ-3EKF1431V
designator R?  value 1.43k  (hidden comment: *)
RES SMD 1.43K OHM 1% 1/10W 0603; MPN: ERJ-3EKF1431V; MFT: Panasonic Electronic Components; RATING: ±1%; TYPE: Surface Mount
footprint R0603
pins: 1, 2

## ERJ-3EKF1432V
designator R?  value 14.3k  (hidden comment: *)
RES SMD 14.3K OHM 1% 1/10W 0603; MPN: ERJ-3EKF1432V; MFT: Panasonic Electronic Components; RATING: ±1%; TYPE: Surface Mount
footprint R0603
pins: 1, 2

## ERJ-3EKF1501V
designator R?  value 1.5k  (hidden comment: *)
RES SMD 1.5K OHM 1% 1/10W 0603; MPN: ERJ-3EKF1501V; MFT: Panasonic Electronic Components; RATING: 0.1W; TYPE: Surface Mount
footprint R0603
pins: 1, 2

## ERJ-3EKF2001V
designator R?  value 2k  (hidden comment: *)
RES SMD 2K OHM 1% 1/10W 0603; MPN: ERJ-3EKF2001V; MFT: Panasonic Electronic Components; RATING: 0.1W; TYPE: Surface Mount
footprint R0603
pins: 1, 2

## ERJ-3EKF2261V
designator R?  value 2.26k  (hidden comment: *)
RES SMD 2.26K OHM 1% 1/10W 0603; MPN: ERJ-3EKF2261V; MFT: Panasonic Electronic Components; RATING: 0.1W; TYPE: Surface Mount
footprint R0603
pins: 1, 2

## ERJ-3EKF2802V
designator R?  value 28k  (hidden comment: *)
RES SMD 28K OHM 1% 1/10W 0603; MPN: ERJ-3EKF2802V; MFT: Panasonic Electronic Components; RATING: 0.1W; TYPE: Surface Mount
footprint R0603
pins: 1, 2

## ERJ-3EKF3162V
designator R?  value 31.6k  (hidden comment: *)
RES SMD 31.6K OHM 1% 1/10W 0603; MPN: ERJ-3EKF3162V; MFT: Panasonic; RATING: 1/10W; LOAD: *; TYPE: SMD
footprint R0603
pins: 1, 2

## ERJ-3EKF3301V
designator R?  value 3.3k  (hidden comment: *)
RES SMD 3.3K OHM 1% 1/10W 0603; MPN: ERJ-3EKF3301V; MFT: Panasonic Electronic Components; RATING: 0.1W, 1/10W; TYPE: Surface Mount
footprint R0603
pins: 1, 2

## ERJ-3EKF3302V
designator R?  value 33k  (hidden comment: *)
RES SMD 33K OHM 1% 1/10W 0603; MPN: ERJ-3EKF3302V; MFT: Panasonic Electronic Components; RATING: 0.1W; TYPE: Surface Mount
footprint R0603
pins: 1, 2

## ERJ-3EKF3481V
designator R?  value 3.48k  (hidden comment: *)
RES 3.48K OHM 1/10W  1% 0603 SMD; MPN: ERJ-3EKF3481V; RATING: 0.1W; MFT: Panasonic; TYPE: Surface Mount
footprint R0603
pins: 1, 2

## ERJ-3EKF4001V
designator R?  value 4K  (hidden comment: *)
RES 4.00K OHM 1/10W  1% 0603 SMD; MPN: ERJ-3EKF4001V; RATING: 0.1W; MFT: Panasonic; TYPE: Surface Mount
footprint R0603
pins: 1, 2

## ERJ-3EKF4531V
designator R?  value 4.53k  (hidden comment: *)
RES SMD 4.53K OHM 1% 1/10W 0603; MPN: ERJ-3EKF4531V; MFT: Panasonic Electronic Components; RATING: 0.1W; TYPE: Surface Mount
footprint R0603
pins: 1, 2

## ERJ-3EKF4701V
designator R?  value 4.7k  (hidden comment: *)
RES SMD 4.7K OHM 1% 1/10W 0603; MPN: ERJ-3EKF4701V; MFT: Panasonic Electronic Components; RATING: 0.1W, 1/10W; TYPE: Surface Mount
footprint R0603
pins: 1, 2

## ERJ-3EKF4750V
designator R?  value 475  (hidden comment: *)
RES SMD 475 OHM 1% 1/10W 0603; MPN: ERJ-3EKF4750V; MFT: Panasonic Electronic Components; RATING: ±1%; TYPE: Surface Mount
footprint R0603
pins: 1, 2

## ERJ-3EKF4991V
designator R?  value 4.99k  (hidden comment: *)
RES SMD 4.99K OHM 1% 1/10W 0603; MPN: ERJ-3EKF4991V; MFT: Panasonic Electronic Components; RATING: 0.1W; TYPE: Surface Mount
footprint R0603
pins: 1, 2

## ERJ-3EKF6811V
designator R?  value 6.81k  (hidden comment: *)
RES SMD 6.81K OHM 1% 1/10W 0603; MPN: ERJ-3EKF6811V; MFT: Panasonic Electronic Components; RATING: 0.1W; TYPE: Surface Mount
footprint R0603
pins: 1, 2

## ERJ-3EKF7500V
designator R?  value 750  (hidden comment: *)
RES SMD 750 OHM 1% 1/10W 0603; MPN: ERJ-3EKF7500V; MFT: Panasonic Electronic Components; RATING: 0.1W, 1/10W; TYPE: Surface Mount
footprint R0603
pins: 1, 2

## ERJ-3GEY0R00V
designator R?  value 0.0  (hidden comment: ERJ-3GEY0R00V)
RES SMD 0.0 OHM JUMPER 1/10W; MFT: Panasonic Electronic Components; RATING: 0.1W, 1/10W; MPN: ERJ-3GEY0R00V; TYPE: Surface Mount
footprint R0603
pins: 1, 2

## ERJ-3GEYJ102V
designator R?  value 1k  (hidden comment: *)
RES SMD 1K OHM 5% 1/10W 0603; MPN: ERJ-3GEYJ102V; MFT: Panasonic Electronic Components; RATING: 0.1W; TYPE: Surface Mount
footprint R0603
pins: 1, 2

## ERJ-3GEYJ103V
designator R?  value 10k  (hidden comment: *)
RES SMD 10K OHM 5% 1/10W 0603; MPN: ERJ-3GEYJ103V; MFT: Panasonic Electronic Components; RATING: 0.1W; TYPE: Surface Mount
footprint R0603
pins: 1, 2

## ERJ-3GEYJ132V
designator R?  value 1.3k  (hidden comment: *)
RES SMD 1.3K OHM 5% 1/10W 0603; MPN: ERJ-3GEYJ132V; MFT: Panasonic Electronic Components; RATING: 0.1W; TYPE: Surface Mount
footprint R0603
pins: 1, 2

## ERJ-3GEYJ151V
designator R?  value 150  (hidden comment: *)
RES SMD 150 OHM 5% 1/10W 0603; MPN: ERJ-3GEYJ151V; MFT: Panasonic Electronic Components; RATING: 0.1W; TYPE: Surface Mount
footprint R0603
pins: 1, 2

## ERJ-3GEYJ152V
designator R?  value 1.5k  (hidden comment: *)
RES SMD 1.5K OHM 5% 1/10W 0603; MPN: ERJ-3GEYJ152V; MFT: Panasonic Electronic Components; RATING: 0.1W; TYPE: Surface Mount
footprint R0603
pins: 1, 2

## ERJ-3GEYJ271V
designator R?  value 270  (hidden comment: *)
RES SMD 270 OHM 5% 1/10W 0603; MPN: ERJ-3GEYJ271V; MFT: Panasonic Electronic Components; RATING: 0.1W; TYPE: Surface Mount
footprint R0603
pins: 1, 2

## ERJ-3GEYJ272V
designator R?  value 2.7k  (hidden comment: *)
RES SMD 2.7K OHM 5% 1/10W 0603; MPN: ERJ-3GEYJ272V; MFT: Panasonic Electronic Components; RATING: 0.1W; TYPE: Surface Mount
footprint R0603
pins: 1, 2

## ERJ-3GEYJ273V
designator R?  value 27k  (hidden comment: *)
RES SMD 27K OHM 5% 1/10W 0603; MPN: ERJ-3GEYJ273V; MFT: Panasonic Electronic Components; RATING: 0.1W; TYPE: Surface Mount
footprint R0603
pins: 1, 2

## ERJ-3GEYJ274V
designator R?  value 270k  (hidden comment: *)
RES SMD 270K OHM 5% 1/10W 0603; MPN: ERJ-3GEYJ274V; MFT: Panasonic Electronic Components; LOAD: *; TYPE: SMD; RATING: 1/10W
footprint R0603
pins: 1, 2

## ERJ-3GEYJ333V
designator R?  value 33k  (hidden comment: *)
RES SMD 33K OHM 5% 1/10W 0603; MPN: ERJ-3GEYJ333V; MFT: Panasonic Electronic Components; RATING: 0.1W; TYPE: Surface Mount
footprint R0603
pins: 1, 2

## ERJ-3GEYJ391V
designator R?  value 390  (hidden comment: *)
RES SMD 390 OHM 5% 1/10W 0603; MPN: ERJ-3GEYJ391V; MFT: Panasonic Electronic Components; RATING: 0.1W; TYPE: Surface Mount
footprint R0603
pins: 1, 2

## ERJ-3GEYJ512V
designator R?  value 5.1k  (hidden comment: *)
RES SMD 5.1K OHM 5% 1/10W 0603; MPN: ERJ-3GEYJ512V; MFT: Panasonic Electronic Components; RATING: 0.1W; TYPE: Surface Mount
footprint R0603
pins: 1, 2

## ERJ-3RQF1R5V
designator R?  value 1.5  (hidden comment: *)
RES SMD 1.5 OHM 1% 1/10W 0603; MPN: ERJ-3RQF1R5V; MFT: Panasonic Electronic Components; TYPE: SMD; RATING: 1/10W; LOAD: *
footprint R0603
pins: 1, 2

## ERJ-3RQFR47V
designator R?  value 0.47Ohm  (hidden comment: *)
RES 0.47 OHM 1% 1/10W 0603; MPN: ERJ-3RQFR47V; MFT: Panasonic Electronic Components; LOAD: *; TYPE: SMD; RATING: 1/10W
footprint R0603
pins: 1, 2

## ERJ-3RSFR15V
designator R?  value 0.15Ohm  (hidden comment: *)
RES 0.15 OHM 1% 1/10W 0603; MPN: ERJ-3RSFR15V; MFT: Panasonic Electronic Components; TYPE: SMD; LOAD: *; RATING: 1/10W
footprint R0603
pins: 1, 2

## ERJ-6ENF1071V
designator R?  value 1.07k  (hidden comment: *)
RES SMD 1.07K OHM 1% 1/8W 0805; MPN: ERJ-6ENF1071V; MFT: Panasonic Electronic Components; RATING: 125 mW; TYPE: Surface Mount
footprint R0805
pins: 1, 2

## ERJ-6ENF4023V
designator R?  value 402 k  (hidden comment: *)
Thick Film Resistors - SMD 0805 402Kohms 1% Tol; MPN: ERJ-6ENF4023V; MFT: Panasonic; RATING: 125 mW; TYPE: Surface Mount
footprint R0805
pins: 1, 2

## ERJ-6GEY0R00V
designator R?  value 0  (hidden comment: *)
Thick Film Resistors - SMD 0805 Zero Ohms 5% Tol; MPN: ERJ-6GEY0R00V; MFT: Panasonic; TYPE: Surface Mount
footprint R0805
pins: 1, 2

## ERJ-8ENF3303V
designator R?  value 330k  (hidden comment: ERJ-8ENF3303V)
RES SMD 330K OHM 1% 1/4W 1206; MFT: Panasonic Electronic Components; RATING: 0.25W, 1/4W; MPN: ERJ-8ENF3303V; TYPE: Surface Mount
footprint R1206
pins: 1, 2

## ERJ-8ENF8203V
designator R?  value 820k  (hidden comment: ERJ-8ENF8203V)
RES SMD 820K OHM 1% 1/4W 1206; MFT: Panasonic Electronic Components; RATING: 0.25W, 1/4W; MPN: ERJ-8ENF8203V; TYPE: Surface Mount
footprint R1206
pins: 1, 2

## ERJ-  3GEYJ330V
designator R?  value 33  (hidden comment: *)
RES SMD 33 OHM 5% 1/10W 0603; MPN: ERJ-3GEYJ330V; MFT: Panasonic; RATING: 0.1W; TYPE: Surface Mount
footprint R0603
pins: 1, 2

## ERJ-A1AJ120U
designator R?  value 12  (hidden comment: ERJ-A1AJ120U)
RES SMD 12 OHM 5% 1.33W 2512; MFT: Panasonic Electronic Components; MPN: ERJ-A1AJ120U; RATING: 1.33W; TYPE: Surface Mount
footprint R2512
pins: 1, 2

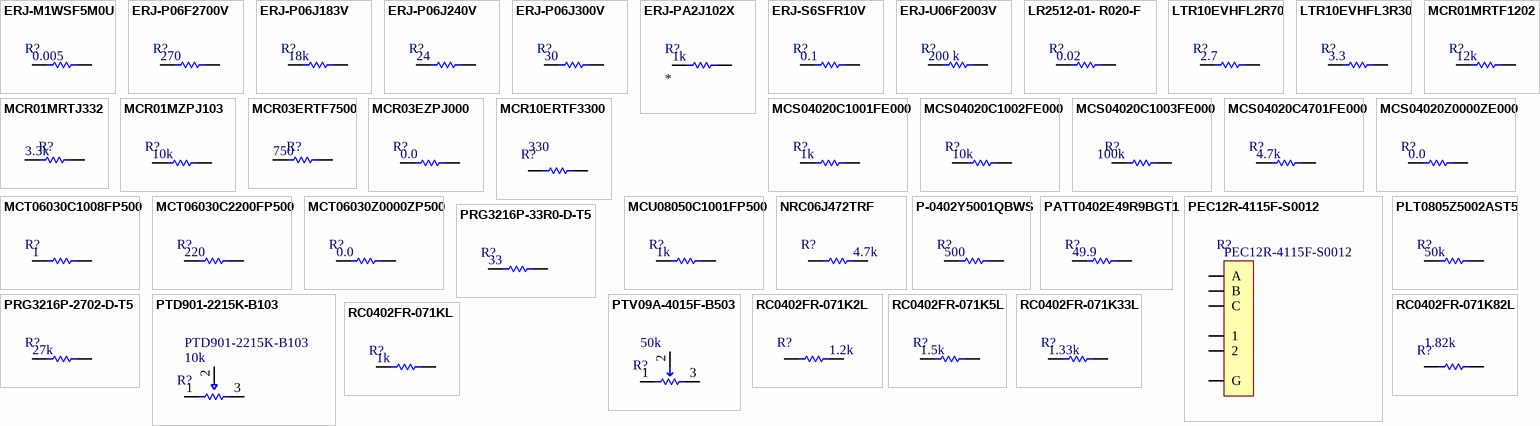
[diagram p5: symbols ERJ-M1WSF5M0U to RC0402FR-071KL]

## ERJ-M1WSF5M0U
designator R?  value 0.005  (hidden comment: *)
RES SMD 0.005 OHM 1% 1W 2512; MPN: ERJ-M1WSF5M0U; MFT: Panasonic Electronic Components; RATING: 1W; TYPE: Surface Mount
footprint R2512
pins: 1, 2

## ERJ-P06F2700V
designator R?  value 270  (hidden comment: *)
Thick Film Resistors - SMD 0805 270ohms 0.5W 1% Tol; MPN: ERJ-P06F2700V; MFT: Panasonic; RATING: 500 mW; TYPE: SMD/SMT
footprint R0805
pins: 1, 2

## ERJ-P06J183V
designator R?  value 18k  (hidden comment: *)
RES SMD 18K OHM 5% 1/2W 0805; MPN: ERJ-P06J183V; MFT: Panasonic Electronic Components; RATING: 500 mW; TYPE: Surface Mount
footprint R0805
pins: 1, 2

## ERJ-P06J240V
designator R?  value 24  (hidden comment: *)
RES SMD 24 OHM 5% 1/2W 0805; MPN: ERJ-P06J240V; MFT: Panasonic Electronic Components; RATING: 500 mW; TYPE: Surface Mount
footprint R0805
pins: 1, 2

## ERJ-P06J300V
designator R?  value 30  (hidden comment: *)
RES SMD 30 OHM 5% 1/2W 0805; MPN: ERJ-P06J300V; RATING: 500 mW; MFT: Panasonic Electronic Components; TYPE: Surface Mount
footprint R0805
pins: 1, 2

## ERJ-PA2J102X
designator R?  value 1k
RES SMD 1K OHM 5% 1/5W 0402; MPN: ERJ-PA2J102X; MFT: Panasonic Electronic Components; RATING: 0.2W, 1/5W; TYPE: Surface Mount
footprint R0402
pins: 1, 2

## ERJ-S6SFR10V
designator R?  value 0.1  (hidden comment: *)
RES SMD 0.1 OHM 1% 1/4W 0805; MPN: ERJ-S6SFR10V; MFT: Panasonic Electronic Components; RATING: 250 mW; TYPE: Surface Mount
footprint R0805
pins: 1, 2

## ERJ-U06F2003V
designator R?  value 200 k  (hidden comment: *)
Thick Film Resistors - SMD 0805 1% 200Kohm Anti-Sulfur; MPN: ERJ-U06F2003V; MFT: Panasonic; RATING: 125 mW; TYPE: Surface Mount
footprint R0805
pins: 1, 2

## LR2512-01- R020-F
designator R?  value 0.02  (hidden comment: *)
Res. 2W, 0.02 ohm 1%; MPN: LR2512-01- R020-F; MFT: TTelectronics; TYPE: Surface Mount; RATING: 1%
footprint R2512
pins: 1, 2

## LTR10EVHFL2R70
designator R?  value 2.7  (hidden comment: *)
RES SMD 2.7 OHM 1% 1/2W 0805; MPN: LTR10EVHFL2R70; MFT: Rohm Semiconductor; RATING: 1% 1/2W; TYPE: Surface Mount
footprint R0805
pins: 1, 2

## LTR10EVHFL3R30
designator R?  value 3.3  (hidden comment: *)
RES SMD 3.3 OHM 1% 1/2W 0805; MPN: LTR10EVHFL3R30; MFT: Rohm Semiconductor; RATING: 1% 1/2W; TYPE: Surface Mount
footprint R0805
pins: 1, 2

## MCR01MRTF1202
designator R?  value 12k  (hidden comment: *)
RES SMD 12K OHM 1% 1/16W 0402; MPN: MCR01MRTF1202; MFT: Rohm Semiconductor; RATING: 0.063W, 1/16W; TYPE: Surface Mount
footprint R0402
pins: 1, 2

## MCR01MRTJ332
designator R?  value 3.3k  (hidden comment: MCR01MRTJ332)
RES SMD 3.3K OHM 5% 1/16W 0402; MFT: Rohm Semiconductor; RATING: 0.063W, 1/16W; MPN: MCR01MRTJ332; TYPE: Surface Mount
footprint R0402
pins: 1, 2

## MCR01MZPJ103
designator R?  value 10k  (hidden comment: *)
RES SMD 10K OHM 5% 1/16W 0402; MPN: MCR01MZPJ103; MFT: Rohm Semiconductor; TYPE: SMD; RATING: 5% 1/16W; LOAD: *
footprint R0402
pins: 1, 2

## MCR03ERTF7500
designator R?  value 750  (hidden comment: MCR03ERTF7500)
RES SMD 750 OHM 1% 1/10W 0603; MFT: Rohm Semiconductor; RATING: 0.1W, 1/10W; MPN: MCR03ERTF7500; TYPE: Surface Mount
footprint R0603
pins: 1, 2

## MCR03EZPJ000
designator R?  value 0.0  (hidden comment: *)
RES SMD 0.0OHM JUMPER 1/10W 0603; MPN: MCR03EZPJ000; MFT: Rohm Semiconductor; LOAD: *; RATING: 1/10W; TYPE: SMD
footprint R0603
pins: 1, 2

## MCR10ERTF3300
designator R?  value 330  (hidden comment: *)
RES SMD 330 OHM 1% 1/8W 0805; MPN: MCR10ERTF3300; MFT: Rohm Semiconductor; RATING: 1% 1/8W; TYPE: Surface Mount
footprint R0805
pins: 1, 2

## MCS04020C1001FE000
designator R?  value 1k  (hidden comment: *)
RES SMD 1K OHM 1% 1/10W 0402; MPN: MCS04020C1001FE000; MFT: Vishay Beyschlag; TYPE: SMD; RATING: 1/10W; LOAD: *
footprint R0402
pins: 1, 2

## MCS04020C1002FE000
designator R?  value 10k  (hidden comment: *)
RES SMD 10K OHM 1% 1/10W 0402; MPN: MCS04020C1002FE000; MFT: Vishay Beyschlag; TYPE: SMD; RATING: 1/10W; LOAD: *
footprint R0402
pins: 1, 2

## MCS04020C1003FE000
designator R?  value 100k  (hidden comment: *)
RES SMD 100K OHM 1% 1/10W 0402; MPN: MCS04020C1003FE000; MFT: Vishay Beyschlag; TYPE: SMD; RATING: 1/10W; LOAD: *
footprint R0402
pins: 1, 2

## MCS04020C4701FE000
designator R?  value 4.7k  (hidden comment: *)
RES SMD 4.7K OHM 1% 1/10W 0402; MPN: MCS04020C4701FE000; MFT: Vishay Beyschlag; TYPE: SMD; RATING: 1/10W; LOAD: *
footprint R0402
pins: 1, 2

## MCS04020Z0000ZE000
designator R?  value 0.0  (hidden comment: *)
RES SMD 0.0OHM JUMPER 1/10W 0402; MPN: MCS04020Z0000ZE000; MFT: Vishay Beyschlag; RATING: 0.1W; TYPE: Surface Mount
footprint R0402
pins: 1, 2

## MCT06030C1008FP500
designator R?  value 1  (hidden comment: *)
RES SMD 1 OHM 1% 1/8W 0603; MPN: MCT06030C1008FP500; MFT: Vishay Beyschlag; RATING: 0.125W, 1/8W; TYPE: Surface Mount
footprint R0603
pins: 1, 2

## MCT06030C2200FP500
designator R?  value 220  (hidden comment: *)
RES SMD 220 OHM 1% 1/8W 0603; MPN: MCT06030C2200FP500; MFT: Vishay Beyschlag; RATING: ±1%; TYPE: Surface Mount
footprint R0603
pins: 1, 2

## MCT06030Z0000ZP500
designator R?  value 0.0  (hidden comment: *)
RES SMD 0.0 OHM JUMPER 1/8W 0603; MPN: MCT06030Z0000ZP500; MFT: Vishay Beyschlag; RATING: 1/8W; TYPE: Surface Mount
footprint R0603
pins: 1, 2

## MCU08050C1001FP500
designator R?  value 1k  (hidden comment: *)
RES SMD 1K OHM 1% 1/5W 0805; MPN: MCU08050C1001FP500; MFT: Vishay Beyschlag; TYPE: SMD; RATING: 1/5W; LOAD: *
footprint R0805
pins: 1, 2

## NRC06J472TRF
designator R?  value 4.7k  (hidden comment: *)
Res Thick Film 0603 4.7K Ohm 5% 0.1W(1/10W) ±200ppm/°C Pad SMD T/R; MPN: NRC06J472TRF; MFT: NIC Components; LOAD: *; TYPE: SMD; RATING: 1/10W
footprint R0603
pins: 1, 2

## P-0402Y5001QBWS
designator R?  value 500  (hidden comment: *)
Thin Film Resistors - SMD 5K OHM .02% 10PPM; MPN: P-0402Y5001QBWS; MFT: Vishay / Thin Film; TYPE: Surface Mount
footprint R0402
pins: 1, 2

## PATT0402E49R9BGT1
designator R?  value 49.9  (hidden comment: *)
RES SMD 49.9 OHM 0.1% 1/20W 0402; MPN: PATT0402E49R9BGT1; MFT: Vishay Thin Film; RATING: 0.05W, 1/20W; TYPE: Surface Mount
footprint R0402
pins: 1, 2

## PEC12R-4115F-S0012
designator R?  MPN: PEC12R-4115F-S0012  (hidden comment: *)
ROTARY ENCODER MECHANICAL; MFT: Bourns Inc.; VALUE: PEC12R-4115F-S0012; TYPE: *; RATING: *; LOAD: *
footprint PEC12R-4115F-S0012
pins: 1, 2, A, B, C, G

## PLT0805Z5002AST5
designator R?  value 50k  (hidden comment: *)
RES SMD 50K OHM 0.05% 1/4W 0805; MPN: PLT0805Z5002AST5; MFT: Vishay Thin Film; RATING: 0.25W, 1/4W; TYPE: Surface Mount
footprint R0805
pins: 1, 2

## PRG3216P-33R0-D-T5
designator R?  value 33  (hidden comment: *)
RES SMD 33 OHM 0.5% 1W 1206; MPN: PRG3216P-33R0-D-T5; MFT: Susumu; TYPE: Surface Mount
footprint R1206
pins: 1, 2

## PRG3216P-2702-D-T5
designator R?  value 27k  (hidden comment: *)
RES SMD 27K OHM 0.5% 1W 1206; MPN: PRG3216P-2702-D-T5; MFT: Susumu; RATING: 0.5% 1W; TYPE: Surface Mount
footprint R1206
pins: 1, 2